# EAGLE library part MH10-1 (library Domino)
10x1 Pin Male Header
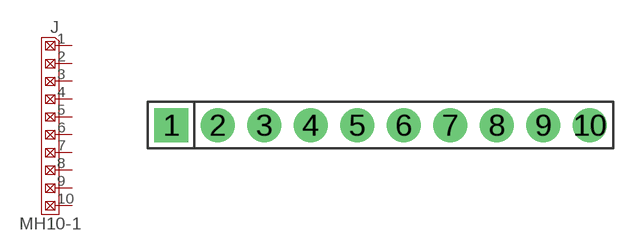
[diagram p15: symbol with the pads of MH10-1-0.1; footprint MH10-1-0.1]

Designator prefix J

## MH10-1  [MH10-1-0.1]
1  1  pas
2  2  pas
3  3  pas
4  4  pas
5  5  pas
6  6  pas
7  7  pas
8  8  pas
9  9  pas
10  10  pas

## Footprint MH10-1-0.1 (pad centres in mm)
1x10 Pin Male Header, 0.1" Pitch
drill 1.016 pad 1.88 square: 1 0,0
drill 1.016 pad 1.88: 2 2.54,0; 3 5.08,0; 4 7.62,0; 5 10.16,0; 6 12.7,0; 7 15.24,0; 8 17.78,0; 9 20.32,0; 10 22.86,0